# Altium footprint library Components - 23.07.26 - 00.01.PcbLib: 4 footprints
Each footprint in its own frame and in the unit in brackets; x right, y up, seen from the top. Pads: shape width x height; smd on the part's side, far side on the other; paste and mask are expansions set on the pad; w line width, h text height; cw(c..) or ccw(c..) is an arc to the next point about the centre after c.
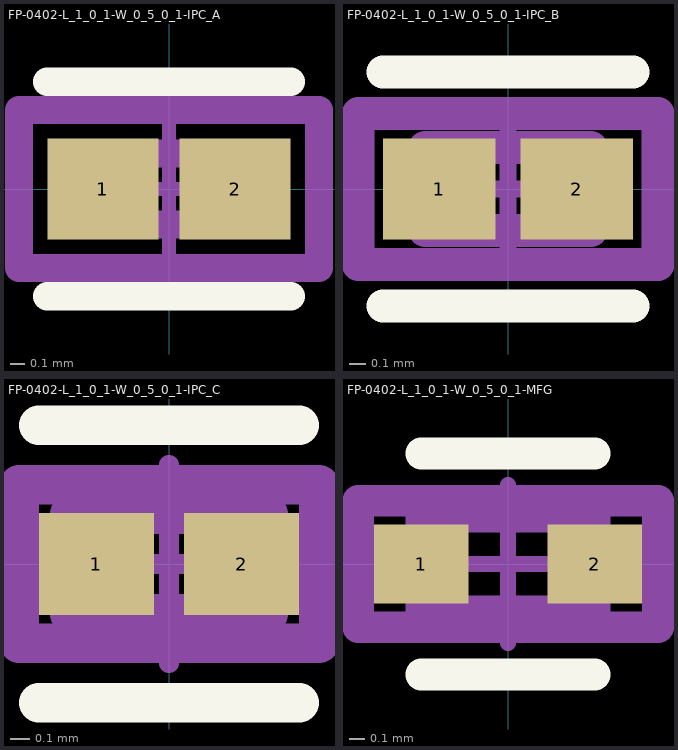
[diagram p0: the footprints below, top view; thin cyan lines are the x and y axes]

## FP-0402-L_1_0_1-W_0_5_0_1-IPC_A [mm]
pads (2):
  rect 0.781x0.712 smd paste+0 mask+0: 1(-0.466,0) 2(0.466,0)
Top Overlay:
  lines w0.2: -0.856,-0.756 0.856,-0.756 ; -0.856,0.756 0.856,0.756
Top Assembly:
  lines w0.2: -1.056,-0.556 1.056,-0.556 1.056,0.556 -1.056,0.556 -1.056,-0.556
  text ".Designator" at 0,0.188 h1
Top 3D Body:
  lines w0.2: -0.5,-0.25 0.5,-0.25 0.5,0.25 -0.5,0.25 -0.5,-0.25
Top Courtyard:
  lines w0.2: -1.056,-0.556 1.056,-0.556 1.056,0.556 -1.056,0.556 -1.056,-0.556
Top Component Center:
  lines w0.1: -0.5,0 0.5,0 ; 0,-0.5 0,0.5
3D body "Cap_AVX_04025C472KAT2A_eec.STEP": height 0.25, standoff 0, extent -1.056,-0.556 1.056,0.556

## FP-0402-L_1_0_1-W_0_5_0_1-IPC_B [mm]
pads (2):
  rect 0.681x0.612 smd paste+0 mask+0: 1(-0.416,0) 2(0.416,0)
Top Overlay:
  lines w0.2: -0.756,-0.706 0.756,-0.706 ; -0.756,0.706 0.756,0.706
Top Assembly:
  lines w0.2: -0.906,-0.456 0.906,-0.456 0.906,0.456 -0.906,0.456 -0.906,-0.456
  text ".Designator" at 0,0.188 h1
Top 3D Body:
  lines w0.2: -0.5,-0.25 0.5,-0.25 0.5,0.25 -0.5,0.25 -0.5,-0.25
Top Courtyard:
  lines w0.2: -0.906,-0.456 0.906,-0.456 0.906,0.456 -0.906,0.456 -0.906,-0.456
Top Component Center:
  lines w0.1: -0.5,0 0.5,0 ; 0,-0.5 0,0.5
3D body "Cap_AVX_04025C472KAT2A_eec.STEP": height 0.25, standoff 0, extent -0.906,-0.456 0.906,0.456

## FP-0402-L_1_0_1-W_0_5_0_1-IPC_C [mm]
pads (2):
  rect 0.581x0.512 smd paste+0 mask+0: 1(-0.366,0) 2(0.366,0)
Top Overlay:
  lines w0.2: -0.656,-0.7 0.656,-0.7 ; -0.656,0.7 0.656,0.7
Top Assembly:
  lines w0.2: -0.756,-0.4 0.756,-0.4 0.756,0.4 -0.756,0.4 -0.756,-0.4
  text ".Designator" at 0,0.188 h1
Top 3D Body:
  lines w0.2: -0.5,-0.25 0.5,-0.25 0.5,0.25 -0.5,0.25 -0.5,-0.25
Top Courtyard:
  lines w0.2: -0.756,-0.4 0.756,-0.4 0.756,0.4 -0.756,0.4 -0.756,-0.4
Top Component Center:
  lines w0.1: -0.5,0 0.5,0 ; 0,-0.5 0,0.5
3D body "Cap_AVX_04025C472KAT2A_eec.STEP": height 0.25, standoff 0, extent -0.756,-0.4 0.756,0.4

## FP-0402-L_1_0_1-W_0_5_0_1-MFG [mm]
pads (2):
  rect 0.6x0.5 smd paste+0 mask+0: 1(-0.55,0) 2(0.55,0)
Top Overlay:
  lines w0.2: -0.55,-0.7 0.55,-0.7 ; -0.55,0.7 0.55,0.7
Top Assembly:
  lines w0.2: -0.95,-0.4 0.95,-0.4 0.95,0.4 -0.95,0.4 -0.95,-0.4
  text ".Designator" at 0,0.188 h1
Top 3D Body:
  lines w0.2: -0.55,-0.3 0.55,-0.3 0.55,0.3 -0.55,0.3 -0.55,-0.3
Top Courtyard:
  lines w0.2: -0.95,-0.4 0.95,-0.4 0.95,0.4 -0.95,0.4 -0.95,-0.4
Top Component Center:
  lines w0.1: -0.5,0 0.5,0 ; 0,-0.5 0,0.5
3D body "Cap_AVX_04025C472KAT2A_eec.STEP": height 0.25, standoff 0, extent -0.95,-0.4 0.95,0.4